# EAGLE library part MAX629 (library My Library-adm)
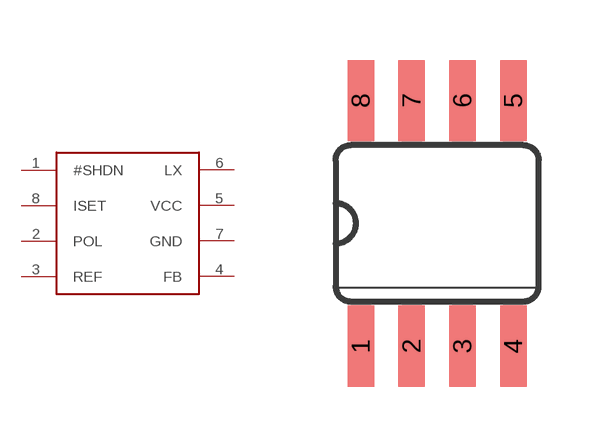
[diagram p6: symbol with the pads of SO08; footprint SO08]

Designator prefix -

## MAX629  [SO08]
1  #SHDN
2  POL
3  REF
4  FB
5  VCC
6  LX
7  GND
8  ISET

## Footprint SO08 (pad centres in mm)
Small Outline Package SO-8, CASE 751
smd 0.66 x 2.032: 1 -1.905,-3.073; 2 -0.635,-3.073; 3 0.635,-3.073; 4 1.905,-3.073; 5 1.905,3.073; 6 0.635,3.073; 7 -0.635,3.073; 8 -1.905,3.073